# Altium schematic symbol library EEE314 PIC32540 Programmer.SCHLIB: 24 symbols
Pins are listed as number, name and electrical type; pins without a type are passive.

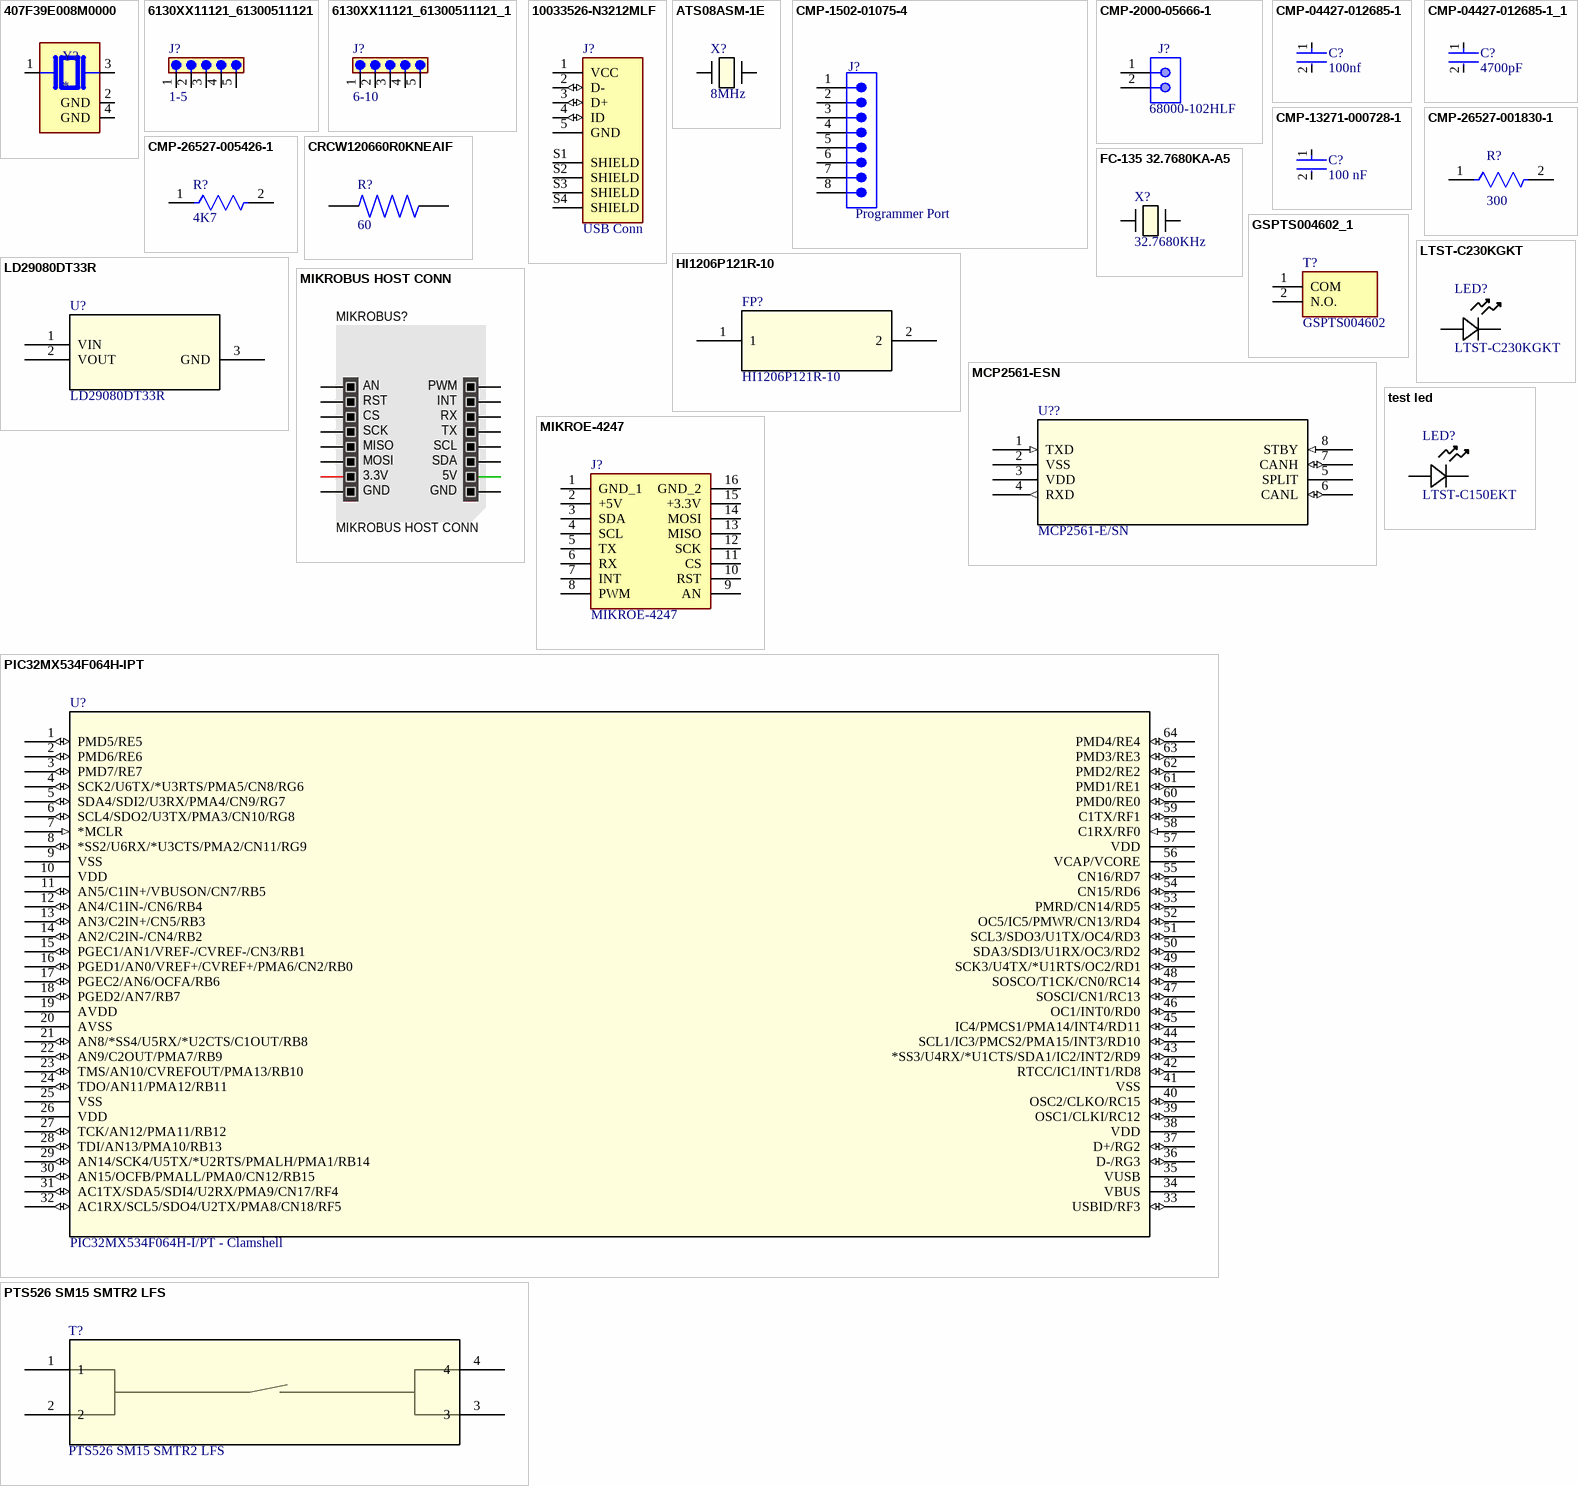
[diagram p0: symbols 407F39E008M0000 to test led]

## 407F39E008M0000
designator Y?
8 MHz Â±30ppm Crystal 20pF 60 Ohms 4-SMD, No Lead; MF: CTS-Frequency Controls; MP: 407F39E008M0000; SnapEDA_Link: https://www.snapeda.com/parts/407F39E008M0000/CTS-Frequency+Controls/view-part/?ref=snap; Package: NON STANDARD-4 CTS Components; Value: *; Check_prices: https://www.snapeda.com/parts/407F39E008M0000/CTS-Frequency+Controls/view-part/?ref=eda
footprint XTAL_407F39E008M0000
pins: 1, 2 GND (power), 3 2, 4 GND (power)

## 6130XX11121_61300511121
designator J?, comment 1-5
MF: {'manufacturer': u'W\xfcrth Elektronik'}; MP: 61300511121; Package: None; Price: None; Value: *; Availability: Unavailable
footprint 61300511121
pins: 1, 2, 3, 4, 5

## 6130XX11121_61300511121_1
designator J?, comment 6-10
MF: {'manufacturer': u'W\xfcrth Elektronik'}; MP: 61300511121; Package: None; Price: None; Value: *; Availability: Unavailable
footprint 61300511121
pins: 1, 2, 3, 4, 5

## 10033526-N3212MLF
designator J?, comment USB Conn
Right Angle Surface Mount Mount Female Type B USB Connector | Amphenol FCI (Amphenol CS) 10033526-N3212MLF; MF: Amphenol ICC; SnapEDA_Link: https://www.snapeda.com/parts/10033526-N3212MLF/Amphenol/view-part/?ref=snap; Package: None; Value: *; MP: 10033526-N3212MLF; Check_prices: https://www.snapeda.com/parts/10033526-N3212MLF/Amphenol/view-part/?ref=eda
footprint AMPHENOL_10033526-N3212MLF
pins: 1 VCC (power), 2 D- (io), 3 D+ (io), 4 ID (io), 5 GND (power), S1 SHIELD, S2 SHIELD, S3 SHIELD, S4 SHIELD

## ATS08ASM-1E
designator X?, comment 8MHz
Description; Manufacturer_Name: Epson; Manufacturer_Part_Number: FC-135 32.7680KA-A5; Copyright: Copyright (C) 2025 Ultra Librarian. All rights reserved.
footprint ATS08ASM-1E homemade :)
pins: 1, 2

## CMP-1502-01075-4
designator J?, comment Programmer Port
THT Angled Pin Header WR-PHD, Pitch 2.54 mm, Single Row, 8 pins; Operating Supply Voltage: 250V; Number of Positions: 8; Contact Resistance: 20mΩ; Gender: Male; Current Rating: 3A; Pitch: 2.54mm; Connector Type: Male Pin; Lead Pitch: 2.54mm; Termination: Solder; Number of Rows: 1; Number of Pins: 8; Number of Contacts: 8; Contact Plating: Gold; Contact Mating Length: 5.9944mm; Color: Black; RoHS: Compliant; Contact Material: Copper; Packaging: Bulk; Mount: Through Hole
footprint 61300811021 (THT Angled Pin Header WR-PHD, Pitch 2.54 mm, Single Row, 8 pins)
pins: 1, 2, 3, 4, 5, 6, 7, 8

## CMP-2000-05666-1
designator J?, comment 68000-102HLF
Male Header, Pitch 2.54 mm, 1 x 2 Position, Height 8.38 mm, Tail Length 2.41 mm, RoHS, Bulk; Number of Positions: 2; Insulation Resistance: 5000MOhms; Voltage Rating: 1.5kV; Mounting Angle: Vertical; Pitch: 2.54mm; Brand: FCI; Current Rating: 3A; Mating Post Length: 5.84mm; Operating Temperature Range: -65Cto+125C; Product Category: Headers&WireHousings; Datasheet URL: https://datasheet.ciiva.com/5149/68000-274228-5149165.pdf; Number of Positions / Contacts: 2; Contact Gender: Pin(Male); Packaging: Bulk; Mounting Technology: ThroughHole; Product Type: Headers; Housing Material: Thermoplastic; Contact Material: PhosphorBronze; Contact Plating: Gold/GTX; Package Description: Male Header, Pitch 2.54 mm, 1 x 2 Position, Height 8.38 mm, Tail Length 2.41 mm; Package Reference: 68000-102HLF; Type: Unshrouded; Factory Pack Quantity: 100; Termination Style: ThroughHole; RoHS: Details; Series: 68000; Mounting Style: ThroughHole; Flammability Rating: UL94V-0; Number of Rows: 1; Manufacturer: FCI; Termination Post Length: 2.41mm; Manufacturer URL: http://www.amphenol.com/; Datasheet Version: Rev. F, 04/2006
footprint AMPH-68000-102HLF_V (THD, 2-Leads, Body 5.08x2.41mm, Pitch 2.54mm)
pins: 1, 2

## CMP-04427-012685-1
designator C?, comment 100nf
Automotive Ceramic Capacitor, 1206, 100nF, 10%, X7R, 15%, 200V; Voltage Rating (DC): 200V; Case/Package: 1206; Length: 3.2mm; Max Operating Temperature: 125°C; Termination: SMD/SMT; Width: 1.6mm; Lead Free: Lead Free; Package Quantity: 2000; Min Operating Temperature: -55°C; Capacitance: 100nF; Height: 1.52mm; Depth: 1.6mm; Dielectric: X7R; Case Code (Metric): 3216; Packaging: Tape and Reel; Case Code (Imperial): 1206; Tolerance: 10%
footprint FP-1206-L_3_2_0_2-W_1_6_0-IPC_A
footprint FP-1206-L_3_2_0_2-W_1_6_0-IPC_C
footprint FP-1206-L_3_2_0_2-W_1_6_0-MFG
footprint FP-1206-L_3_2_0_2-W_1_6_0-IPC_B
pins: 1, 2

## CMP-04427-012685-1_1
designator C?, comment 4700pF
Automotive Ceramic Capacitor, 1206, 100nF, 10%, X7R, 15%, 200V; Voltage Rating (DC): 200V; Case/Package: 1206; Length: 3.2mm; Max Operating Temperature: 125°C; Termination: SMD/SMT; Width: 1.6mm; Lead Free: Lead Free; Package Quantity: 2000; Min Operating Temperature: -55°C; Capacitance: 100nF; Height: 1.52mm; Depth: 1.6mm; Dielectric: X7R; Case Code (Metric): 3216; Packaging: Tape and Reel; Case Code (Imperial): 1206; Tolerance: 10%
footprint FP-1206-L_3_2_0_2-W_1_6_0-IPC_A
footprint FP-1206-L_3_2_0_2-W_1_6_0-IPC_C
footprint FP-1206-L_3_2_0_2-W_1_6_0-MFG
footprint FP-1206-L_3_2_0_2-W_1_6_0-IPC_B
pins: 1, 2

## CMP-13271-000728-1
designator C?, comment 100 nF
Cap Ceramic 100nF 25V X5R ±10% SMD 0402 +85°C Paper T/R; Package Quantity: 1; Height: 0.5mm; Case Code (Metric): 1005; Thickness: 0.022inch; Mount: Surface Mount; Lead Free: Lead Free; Case Code (Imperial): 0402; Packaging: Tape and Reel; Depth: 0.5mm; Voltage: 25V; Min Operating Temperature: -55°C; Voltage Rating: 25V; Dielectric: X5R; Case/Package: 0402; Tolerance: 10%; Width: 0.02inch; Max Operating Temperature: 85°C; Capacitance: 100nF; Length: 1mm; Radiation Hardening: No; Voltage Rating (DC): 25V
footprint FP-CL278-IPC_C
footprint FP-CL278-IPC_B
footprint FP-CL278-IPC_A
pins: 1, 2

## CMP-26527-001830-1
designator R?, comment 300
300Ω ±5% 0.25W 1206 Thick Film Chip Resistor AEC-Q200 compliant; Temperature Coefficient: 200ppm/°C; Resistance: 300R; Max Power Dissipation: 250mW; Packaging: Tape and Reel; Case Code (Metric): 3216; Resistor Type: Thick Film; Depth: 1.6mm; Contact Plating: Tin; Radiation Hardening: No; Max Operating Temperature: 155°C; Series: RMCF; Construction: Rectangular; Mount: Surface Mount; Width: 0.063inch; Tolerance: 5%; RoHS Compliant: Yes; Height: 0.028inch; Number of Terminations: 2; Case Code (Imperial): 1206; Features: Automotive AEC-Q200; Length: 3.2mm; Lead Free: Lead Free; Military Standard: Not; Min Operating Temperature: -55°C; Case/Package: 1206
footprint FP-RMCF1206-IPC_B
footprint FP-RMCF1206-MFG
footprint FP-RMCF1206-IPC_A
footprint FP-RMCF1206-IPC_C
pins: 1, 2

## CMP-26527-005426-1
designator R?, comment 4K7
4.7kΩ ±5% 0.25W 1206 Thick Film Chip Resistor AEC-Q200 compliant; Max Power Dissipation: 250mW; Resistance: 4.7kR; Temperature Coefficient: 200ppm/°C; RoHS Compliant: Yes; Radiation Hardening: No; Resistor Type: Thick Film; Number of Terminations: 2; Mount: Surface Mount; Series: RMCF; Tolerance: 5%; Features: Automotive AEC-Q200; Width: 0.063inch; Case Code (Metric): 3216; Military Standard: Not; Packaging: Tape and Reel; Height: 0.028inch; Size Code: 1206; Lead Free: Lead Free; Max Operating Temperature: 155°C; Length: 3.2mm; Construction: Rectangular; Depth: 1.6mm; Case/Package: 1206; Contact Plating: Tin; Case Code (Imperial): 1206; Power Rating: 250mW; Min Operating Temperature: -55°C
footprint FP-RMCF1206-IPC_A
footprint FP-RMCF1206-MFG
footprint FP-RMCF1206-IPC_C
footprint FP-RMCF1206-IPC_B
pins: 1, 2

## CRCW120660R0KNEAIF
designator R?, comment 60
60 Ohms Â±10% 0.25W, 1/4W Chip Resistor 1206 (3216 Metric) Automotive AEC-Q200, Pulse Withstanding Thick Film; MF: Vishay Dale; MP: CRCW120660R0KNEAIF; SnapEDA_Link: https://www.snapeda.com/parts/CRCW120660R0KNEAIF/Vishay+Dale/view-part/?ref=snap; Package: 3116 Vishay; Value: *; Check_prices: https://www.snapeda.com/parts/CRCW120660R0KNEAIF/Vishay+Dale/view-part/?ref=eda
footprint RESC3116X60N
pins: 1, 2

## FC-135 32.7680KA-A5
designator X?, comment 32.7680KHz
Description; Manufacturer_Name: Epson; Manufacturer_Part_Number: FC-135 32.7680KA-A5; Copyright: Copyright (C) 2025 Ultra Librarian. All rights reserved.
footprint XTAL_FC-135_EPS
pins: 1, 2

## GSPTS004602_1
designator T?, comment GSPTS004602
Tactile Switch SPST-NO Top Actuated Surface Mount 0.05A,12VDC ,-40C ~ 90C,"PTS636SK25FSMTR LFS"; Manufacturer_Name: C & K COMPONENTS; Geometry.Height: 2.7mm; TTI Part Number: *; TTI Price/Stock: *; Manufacturer_Part_Number: GSPTS004602; Datasheet Link: https://www.ckswitches.com/media/2779/pts636.pdf
footprint GSPTS004602
pins: 1 COM, 2 N.O.

## HI1206P121R-10
designator FP?
Description; Manufacturer_Name: Laird; Copyright: Copyright (C) 2025 Ultra Librarian. All rights reserved.; Manufacturer_Part_Number: HI1206P121R-10; RefDes: RefDes; Type: Type
footprint HI1206P121R-10_LRD
pins: 1, 2

## LD29080DT33R
designator U?
800 mA fixed and adjustable output very low drop voltage regulator; Manufacturer_Name: STMicroelectronics; Copyright: Copyright (C) 2025 Ultra Librarian. All rights reserved.; Manufacturer_Part_Number: LD29080DT33R; RefDes: RefDes; Type: Type
footprint DPAK_STM
pins: 1 VIN (power), 2 VOUT (power), 3 GND (power)

## LTST-C230KGKT
designator LED?
LED GREEN CLEAR CHIP SMD; Manufacturer_Name: LITE-ON; Copyright: Copyright (C) 2025 Ultra Librarian. All rights reserved.; Manufacturer_Part_Number: LTST-C230KGKT
footprint LED_LTST-C230KGKT_LTO
pins: 1, 2

## MCP2561-ESN
designator U??, comment MCP2561-E/SN
Description; Manufacturer_Name: Microchip; Copyright: Copyright (C) 2025 Ultra Librarian. All rights reserved.; Manufacturer_Part_Number: MCP2561-E/SN; RefDes: RefDes; Type: Type
footprint SOIC8-N_MC_MCH
pins: 1 TXD (in), 2 VSS (power), 3 VDD (power), 4 RXD (out), 5 SPLIT, 6 CANL (io), 7 CANH (io), 8 STBY (in)

## MIKROBUS HOST CONN
designator MIKROBUS?
footprint MIKROBUS HOST CONN 8gen TH
pins: 1 AN, 2 RST, 3 CS, 4 SCK, 5 MISO, 6 MOSI, 7 3.3V, 8 GND, 9 GND, 10 5V, 11 SDA, 12 SCL, 13 TX, 14 RX, 15 INT, 16 PWM

## MIKROE-4247
designator J?
Sockets & Adapters SOCKET mikroBUS 16 TH; Manufacturer_Name: Mikroe; Geometry.Height: 11.6mm; Manufacturer_Part_Number: MIKROE-4247; Mouser Part Number: 932-MIKROE-4247; Mouser Price/Stock: https://www.mouser.co.uk/ProductDetail/Mikroe/MIKROE-4247?qs=zW32dvEIR3v60RwxHCFyew%3D%3D; Arrow Part Number: *; Arrow Price/Stock: *; Datasheet Link: https://download.mikroe.com/documents/mikrobu_socket/SOCKET%20mikroBUS%2016%20TH.pdf
footprint MIKROBUS HOST CONN 8gen TH
pins: 1 GND_1, 2 +5V, 3 SDA, 4 SCL, 5 TX, 6 RX, 7 INT, 8 PWM, 9 AN, 10 RST, 11 CS, 12 SCK, 13 MISO, 14 MOSI, 15 +3.3V, 16 GND_2

## PIC32MX534F064H-IPT
designator U?, comment PIC32MX534F064H-I/PT - Clamshell
Description; Manufacturer_Name: Microchip; Copyright: Copyright (C) 2025 Ultra Librarian. All rights reserved.; Manufacturer_Part_Number: PIC32MX534F064H-I/PT; RefDes: RefDes; Type: Type
footprint TQFP64_10x10MC_MCH
footprint MCU_64BIT_CLAMSHELL_2x16_2ROWS_1900MILFAR
pins: 1 PMD5/RE5 (io), 2 PMD6/RE6 (io), 3 PMD7/RE7 (io), 4 SCK2/U6TX/*U3RTS/PMA5/CN8/RG6 (io), 5 SDA4/SDI2/U3RX/PMA4/CN9/RG7 (io), 6 SCL4/SDO2/U3TX/PMA3/CN10/RG8 (io), 7 *MCLR (in), 8 *SS2/U6RX/*U3CTS/PMA2/CN11/RG9 (io), 9 VSS (power), 10 VDD (power), 11 AN5/C1IN+/VBUSON/CN7/RB5 (io), 12 AN4/C1IN-/CN6/RB4 (io), 13 AN3/C2IN+/CN5/RB3 (io), 14 AN2/C2IN-/CN4/RB2 (io), 15 PGEC1/AN1/VREF-/CVREF-/CN3/RB1 (io), 16 PGED1/AN0/VREF+/CVREF+/PMA6/CN2/RB0 (io), 17 PGEC2/AN6/OCFA/RB6 (io), 18 PGED2/AN7/RB7 (io), 19 AVDD (power), 20 AVSS (power), 21 AN8/*SS4/U5RX/*U2CTS/C1OUT/RB8 (io), 22 AN9/C2OUT/PMA7/RB9 (io), 23 TMS/AN10/CVREFOUT/PMA13/RB10 (io), 24 TDO/AN11/PMA12/RB11 (io), 25 VSS (power), 26 VDD (power), 27 TCK/AN12/PMA11/RB12 (io), 28 TDI/AN13/PMA10/RB13 (io), 29 AN14/SCK4/U5TX/*U2RTS/PMALH/PMA1/RB14 (io), 30 AN15/OCFB/PMALL/PMA0/CN12/RB15 (io), 31 AC1TX/SDA5/SDI4/U2RX/PMA9/CN17/RF4 (io), 32 AC1RX/SCL5/SDO4/U2TX/PMA8/CN18/RF5 (io), 33 USBID/RF3 (io), 34 VBUS (power), 35 VUSB (power), 36 D-/RG3 (io), 37 D+/RG2 (io), 38 VDD (power), 39 OSC1/CLKI/RC12 (io), 40 OSC2/CLKO/RC15 (io), 41 VSS (power), 42 RTCC/IC1/INT1/RD8 (io), 43 *SS3/U4RX/*U1CTS/SDA1/IC2/INT2/RD9 (io), 44 SCL1/IC3/PMCS2/PMA15/INT3/RD10 (io), 45 IC4/PMCS1/PMA14/INT4/RD11 (io), 46 OC1/INT0/RD0 (io), 47 SOSCI/CN1/RC13 (io), 48 SOSCO/T1CK/CN0/RC14 (io), 49 SCK3/U4TX/*U1RTS/OC2/RD1 (io), 50 SDA3/SDI3/U1RX/OC3/RD2 (io), 51 SCL3/SDO3/U1TX/OC4/RD3 (io), 52 OC5/IC5/PMWR/CN13/RD4 (io), 53 PMRD/CN14/RD5 (io), 54 CN15/RD6 (io), 55 CN16/RD7 (io), 56 VCAP/VCORE (power), 57 VDD (power), 58 C1RX/RF0 (in), 59 C1TX/RF1 (io), 60 PMD0/RE0 (io), 61 PMD1/RE1 (io), 62 PMD2/RE2 (io), 63 PMD3/RE3 (io), 64 PMD4/RE4 (io)

## PTS526 SM15 SMTR2 LFS
designator T?
Description; Manufacturer_Name: C&K Components; Copyright: Copyright (C) 2026 Ultra Librarian. All rights reserved.; Manufacturer_Part_Number: PTS526 SM15 SMTR2 LFS; RefDes: RefDes; Type: Type
footprint SON4_PTS526 SM15 SMTR2 LFS_CNK
pins: 1, 2, 3, 4

## test led
designator LED?, comment LTST-C150EKT
Description; Manufacturer_Name: LITE-ON; Manufacturer_Part_Number: LTST-C150GKT; Copyright: Copyright (C) 2025 Ultra Librarian. All rights reserved.
footprint test led
pins: 1, 2